# Altium footprint library DXPpcb.PCBLIB: 575 footprints (part 7 of 36)
Each footprint in its own frame and in the unit in brackets; x right, y up, seen from the top. Pads: shape width x height; smd on the part's side, far side on the other; paste and mask are expansions set on the pad; w line width, h text height; cw(c..) or ccw(c..) is an arc to the next point about the centre after c.
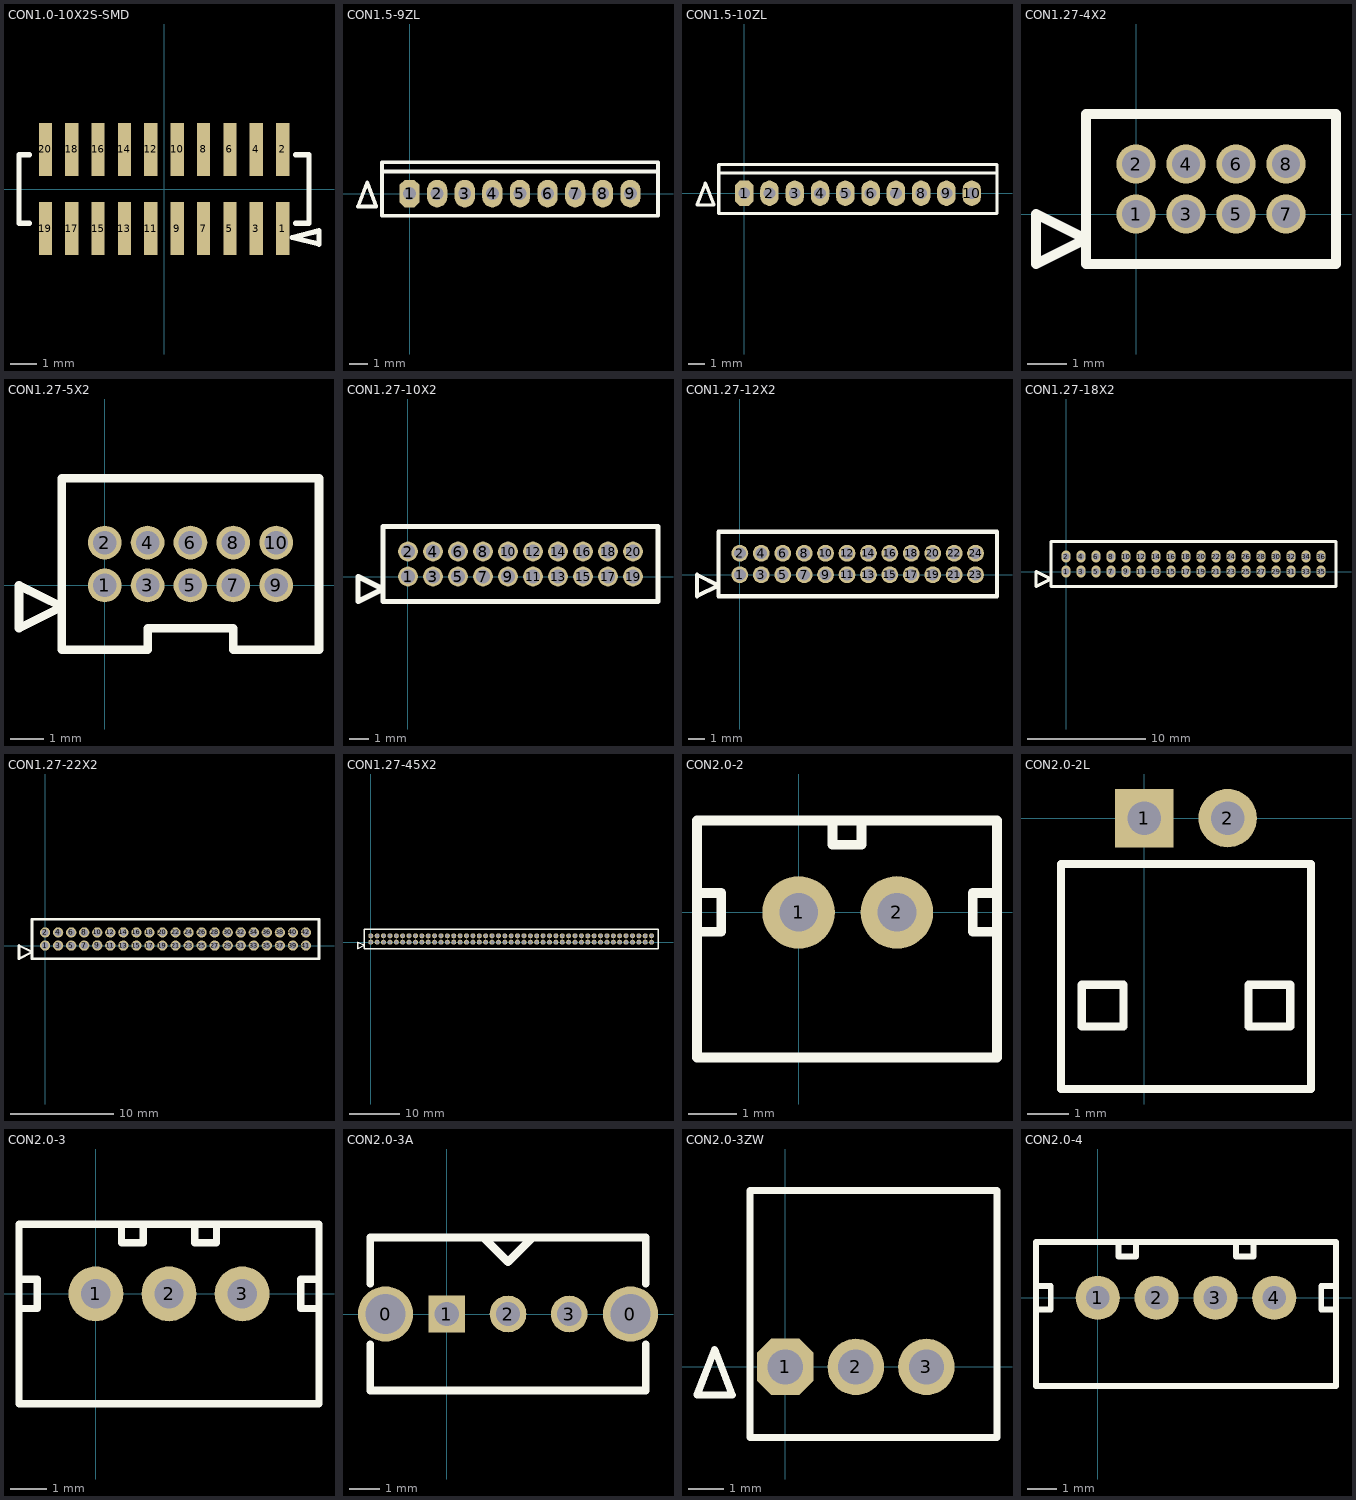
[diagram p6: the footprints below, top view; thin cyan lines are the x and y axes]

## CON1.0-10X2S-SMD [mm]
pads (20):
  rect 0.5x2 smd: 1(4.5,-1.5) 2(4.5,1.5) 3(3.5,-1.5) 4(3.5,1.5) 5(2.5,-1.5) 6(2.5,1.5) 7(1.5,-1.5) 8(1.5,1.5) 9(0.5,-1.5) 10(0.5,1.5) 11(-0.5,-1.5) 12(-0.5,1.5) 13(-1.5,-1.5) 14(-1.5,1.5) 15(-2.5,-1.5) 16(-2.5,1.5) 17(-3.5,-1.5) 18(-3.5,1.5) 19(-4.5,-1.5) 20(-4.5,1.5)
TopOverlay:
  lines w0.2: -5.1,-1.3 -5.5,-1.3 -5.5,1.3 -5.1,1.3 ; 5,-1.3 5.5,-1.3 5.5,1.3 5,1.3 ; 4.862,-1.838 5.878,-2.092 5.878,-1.584 4.862,-1.838

## CON1.5-9ZL [mm]
pads (9):
  oct 1.1x1.5 hole 0.7: 1(0,0)
  oval 1.1x1.5 hole 0.7: 2(1.5,0) 3(3,0) 4(4.5,0) 5(6,0) 6(7.5,0) 7(9,0) 8(10.5,0) 9(12,0)
TopOverlay:
  lines w0.2: -1.5,1.2 13.5,1.2 ; -2.8,-0.7 -2.3,0.6 -1.8,-0.7 -2.8,-0.7 ; -1.5,-1.2 -1.5,1.7 13.5,1.7 13.5,-1.2 -1.5,-1.2

## CON1.5-10ZL [mm]
pads (10):
  oct 1.1x1.5 hole 0.7: 1(0,0)
  oval 1.1x1.5 hole 0.7: 2(1.5,0) 3(3,0) 4(4.5,0) 5(6,0) 6(7.5,0) 7(9,0) 8(10.5,0) 9(12,0) 10(13.5,0)
TopOverlay:
  lines w0.2: -1.5,1.2 15,1.2 ; -2.8,-0.7 -1.8,-0.7 -2.3,0.6 -2.8,-0.7 ; -1.5,-1.2 15,-1.2 15,1.7 -1.5,1.7 -1.5,-1.2

## CON1.27-4X2 [mm]
pads (8):
  round 1 hole 0.7: 1(0,0) 2(0,1.27) 3(1.27,0) 4(1.27,1.27) 5(2.54,0) 6(2.54,1.27) 7(3.81,0) 8(3.81,1.27)
TopOverlay:
  lines w0.254: -2.54,-1.27 -2.54,0 -1.27,-0.635 -2.54,-1.27 ; -1.27,-1.27 -1.27,2.54 5.08,2.54 5.08,-1.27 3.81,-1.27 1.27,-1.27 0,-1.27 -1.27,-1.27

## CON1.27-5X2 [mm]
pads (10):
  round 1 hole 0.7: 1(0,0) 2(0,1.27) 3(1.27,0) 4(1.27,1.27) 5(2.54,0) 6(2.54,1.27) 7(3.81,0) 8(3.81,1.27) 9(5.08,0) 10(5.08,1.27)
TopOverlay:
  lines w0.254: -2.54,-1.27 -2.54,0 -1.27,-0.635 -2.54,-1.27 ; -1.27,-1.905 -1.27,3.175 6.35,3.175 6.35,-1.905 3.81,-1.905 3.81,-1.27 1.27,-1.27 1.27,-1.905 0,-1.905 -1.27,-1.905

## CON1.27-10X2 [mm]
pads (20):
  round 1 hole 0.7: 1(0.001,0.008) 2(0.001,1.278) 3(1.271,0.008) 4(1.271,1.278) 5(2.541,0.008) 6(2.541,1.278) 7(3.811,0.008) 8(3.811,1.278) 9(5.081,0.008) 10(5.081,1.278) 11(6.351,0.008) 12(6.351,1.278) 13(7.621,0.008) 14(7.621,1.278) 15(8.891,0.008) 16(8.891,1.278) 17(10.161,0.008) 18(10.161,1.278) 19(11.431,0.008) 20(11.431,1.278)
TopOverlay:
  lines w0.254: -2.539,-1.262 -2.539,0.008 -1.269,-0.627 -2.539,-1.262 ; -1.269,-1.262 -1.269,2.548 12.701,2.548 12.701,-1.262 -1.269,-1.262

## CON1.27-12X2 [mm]
pads (24):
  round 1 hole 0.7: 1(0.001,0.008) 2(0.001,1.278) 3(1.271,0.008) 4(1.271,1.278) 5(2.541,0.008) 6(2.541,1.278) 7(3.811,0.008) 8(3.811,1.278) 9(5.081,0.008) 10(5.081,1.278) 11(6.351,0.008) 12(6.351,1.278) 13(7.621,0.008) 14(7.621,1.278) 15(8.891,0.008) 16(8.891,1.278) 17(10.161,0.008) 18(10.161,1.278) 19(11.431,0.008) 20(11.431,1.278) 21(12.701,0.008) 22(12.701,1.278) 23(13.971,0.008) 24(13.971,1.278)
TopOverlay:
  lines w0.254: -2.539,-1.262 -1.269,-0.627 -2.539,0.008 -2.539,-1.262 ; -1.269,-1.262 15.241,-1.262 15.241,2.548 -1.269,2.548 -1.269,-1.262

## CON1.27-18X2 [mm]
pads (36):
  oval 0.8x1 hole 0.6: 1(0,0) 2(0,1.27) 3(1.27,0) 4(1.27,1.27) 5(2.54,0) 6(2.54,1.27) 7(3.81,0) 8(3.81,1.27) 9(5.08,0.01) 10(5.08,1.27) 11(6.35,0) 12(6.35,1.27) 13(7.62,0) 14(7.62,1.27) 15(8.89,0) 16(8.89,1.27) 17(10.16,0) 18(10.16,1.27) 19(11.43,0) 20(11.43,1.27) 21(12.7,0) 22(12.7,1.27) 23(13.97,0) 24(13.97,1.27) 25(15.24,0) 26(15.24,1.27) 27(16.51,0) 28(16.51,1.27) 29(17.78,0) 30(17.78,1.27) 31(19.05,0) 32(19.05,1.27) 33(20.32,0) 34(20.32,1.27) 35(21.59,0) 36(21.59,1.27)
TopOverlay:
  lines w0.254: -2.54,-1.27 -2.54,0 -1.27,-0.635 -2.54,-1.27 ; -1.27,-1.27 -1.27,2.54 22.86,2.54 22.86,-1.27 -1.27,-1.27

## CON1.27-22X2  [mm]
pads (42):
  round 1 hole 0.7: 1(0,0) 2(0,1.27) 3(1.27,0) 4(1.27,1.27) 5(2.54,0) 6(2.54,1.27) 7(3.81,0) 8(3.81,1.27) 9(5.08,0.01) 10(5.08,1.27) 11(6.35,0) 12(6.35,1.27) 13(7.62,0) 14(7.62,1.27) 15(8.89,0) 16(8.89,1.27) 17(10.16,0) 18(10.16,1.27) 19(11.43,0) 20(11.43,1.27) 21(12.7,0) 22(12.7,1.27) 23(13.97,0) 24(13.97,1.27) 25(15.24,0) 26(15.24,1.27) 27(16.51,0) 28(16.51,1.27) 29(17.78,0) 30(17.78,1.27) 31(19.05,0) 32(19.05,1.27) 33(20.32,0) 34(20.32,1.27) 35(21.59,0) 36(21.59,1.27) 37(22.86,0) 38(22.86,1.27) 39(24.13,0) 40(24.13,1.27) 41(25.4,0) 42(25.4,1.27)
TopOverlay:
  lines w0.254: -2.54,-1.27 -1.27,-0.635 -2.54,0 -2.54,-1.27 ; -1.27,-1.27 26.67,-1.27 26.67,2.54 -1.27,2.54 -1.27,-1.27

## CON1.27-45X2 [mm]
pads (90):
  round 1 hole 0.7: 1(0,0) 2(0,1.27) 3(1.27,0) 4(1.27,1.27) 5(2.54,0) 6(2.54,1.27) 7(3.81,0) 8(3.81,1.27) 9(5.08,0.01) 10(5.08,1.27) 11(6.35,0) 12(6.35,1.27) 13(7.62,0) 14(7.62,1.27) 15(8.89,0) 16(8.89,1.27) 17(10.16,0) 18(10.16,1.27) 19(11.43,0) 20(11.43,1.27) 21(12.7,0) 22(12.7,1.27) 23(13.97,0) 24(13.97,1.27) 25(15.24,0) 26(15.24,1.27) 27(16.51,0) 28(16.51,1.27) 29(17.78,0) 30(17.78,1.27) 31(19.05,0) 32(19.05,1.27) 33(20.32,0) 34(20.32,1.27) 35(21.59,0) 36(21.59,1.27) 37(22.86,0) 38(22.86,1.27) 39(24.13,0) 40(24.13,1.27) 41(25.4,0) 42(25.4,1.27) 43(26.67,0) 44(26.67,1.27) 45(27.94,0) 46(27.94,1.27) 47(29.21,0.01) 48(29.21,1.27) 49(30.48,0) 50(30.48,1.27) 51(31.75,0) 52(31.75,1.27) 53(33.02,0) 54(33.02,1.27) 55(34.29,0) 56(34.29,1.27) 57(35.56,0) 58(35.56,1.27) 59(36.83,0) 60(36.83,1.27) 61(38.1,0) 62(38.1,1.27) 63(39.37,0) 64(39.37,1.27) 65(40.64,0) 66(40.64,1.27) 67(41.91,0) 68(41.91,1.27) 69(43.18,0) 70(43.18,1.27) 71(44.45,0) 72(44.45,1.27) 73(45.72,0) 74(45.72,1.27) 75(46.99,0) 76(46.99,1.27) 77(48.26,0) 78(48.26,1.27) 79(49.53,0) 80(49.53,1.27) 81(50.8,0) 82(50.8,1.27) 83(52.07,0) 84(52.07,1.27) 85(53.34,0) 86(53.34,1.27) 87(54.61,0) 88(54.61,1.27) 89(55.88,0) 90(55.88,1.27)
TopOverlay:
  lines w0.254: -2.54,-1.27 -1.27,-0.635 -2.54,0 -2.54,-1.27 ; -1.27,-1.27 57.15,-1.27 57.15,2.54 -1.27,2.54 -1.27,-1.27

## CON2.0-2 [mm]
pads (2):
  round 1.5 hole 0.8: 1(0,0) 2(2.032,0)
TopOverlay:
  lines w0.2: -2.1,-0.4 -1.6,-0.4 -1.6,0.4 -2.1,0.4 ; 0.7,1.9 0.7,1.4 1.3,1.4 1.3,1.9 ; 4.1,-0.4 3.6,-0.4 3.6,0.4 4.1,0.4 ; -2.1,-3 4.1,-3 4.1,1.9 -2.1,1.9 -2.1,-3

## CON2.0-2L [mm]
pads (2):
  rect 1.4x1.4 hole 0.8: 1(0,0)
  round 1.4 hole 0.8: 2(2,0)
TopOverlay:
  lines w0.2: -2,-6.5 4,-6.5 4,-1.1 -2,-1.1 -2,-2.6 -2,-6.5 ; -1.5,-5 -1.5,-4 -0.5,-4 -0.5,-5 -1.5,-5 ; 2.5,-5 2.5,-4 3.5,-4 3.5,-5 2.5,-5

## CON2.0-3 [mm]
pads (3):
  round 1.5 hole 0.8: 1(0,0) 2(2,0) 3(4,0)
TopOverlay:
  lines w0.2: -2.1,-0.4 -1.6,-0.4 -1.6,0.4 -2.1,0.4 ; 0.7,1.9 0.7,1.4 1.3,1.4 1.3,1.9 ; 2.7,1.9 2.7,1.4 3.3,1.4 3.3,1.9 ; 6.1,-0.4 5.6,-0.4 5.6,0.4 6.1,0.4 ; -2.1,-3 -2.1,1.9 6.1,1.9 6.1,-3 -2.1,-3

## CON2.0-3A [mm]
pads (5):
  round 1.8 hole 1.3: 0(-2,0) 0(6,0)
  rect 1.2x1.2 hole 0.8: 1(0,0)
  round 1.2 hole 0.8: 2(2,0) 3(4,0)
TopOverlay:
  lines w0.254: -2.5,-1 -2.5,-2.5 6.5,-2.5 6.5,-1 ; -2.5,1 -2.5,2.5 6.5,2.5 6.5,1 ; 1.2,2.5 2,1.7 2.8,2.5

## CON2.0-3ZW [mm]
pads (3):
  oct 1.6x1.6 hole 1: 1(0,0)
  round 1.6 hole 1: 2(2,0) 3(4,0)
TopOverlay:
  lines w0.2: -2.5,-0.8 -2,0.5 -1.5,-0.8 -2.5,-0.8 ; -1,-2 -1,5 6,5 6,-2 -1,-2

## CON2.0-4 [mm]
pads (4):
  round 1.5 hole 0.8: 1(0,0) 2(2,0) 3(4,0) 4(6,0)
TopOverlay:
  lines w0.2: -2.1,-0.4 -1.6,-0.4 -1.6,0.4 -2.1,0.4 ; 0.7,1.9 0.7,1.4 1.3,1.4 1.3,1.9 ; 4.7,1.9 4.7,1.4 5.3,1.4 5.3,1.9 ; 8.1,-0.4 7.6,-0.4 7.6,0.4 8.1,0.4 ; -2.1,-3 8.1,-3 8.1,1.9 -2.1,1.9 -2.1,-3